# EAGLE library part TPS63002DRC (library PocketCube)
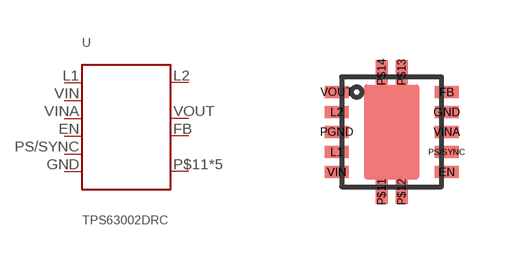
[diagram p19: symbol with the pads of TPS63002DRC; footprint TPS63002DRC]

Designator prefix -

## TPS63002DRC  [TPS63002DRC]
EN  EN
FB  FB
GND  GND
L1  L1
L2  L2
P$11  PGND
P$12  PGND
P$13  PGND
P$14  PGND
PGND  PGND
PS/SYNC  PS/SYNC
VIN  VIN
VINA  VINA
VOUT  VOUT

## Footprint TPS63002DRC (pad centres in mm)
smd 0.61 x 0.305: EN 2.625,0.375; FB 2.625,2.375; GND 2.625,1.875; L1 -0.125,0.875; L2 -0.125,1.875; PGND -0.125,1.375; PS/SYNC 2.625,0.875; VIN -0.125,0.375; VINA 2.625,1.375; VOUT -0.125,2.375
smd 0.305 x 0.61: P$11 1,-0.125; P$12 1.5,-0.125; P$13 1.5,2.875; P$14 1,2.875